# Altium integrated library TL3562-EVM-A1.1-000.IntLib: 110 symbols (part 2 of 2)
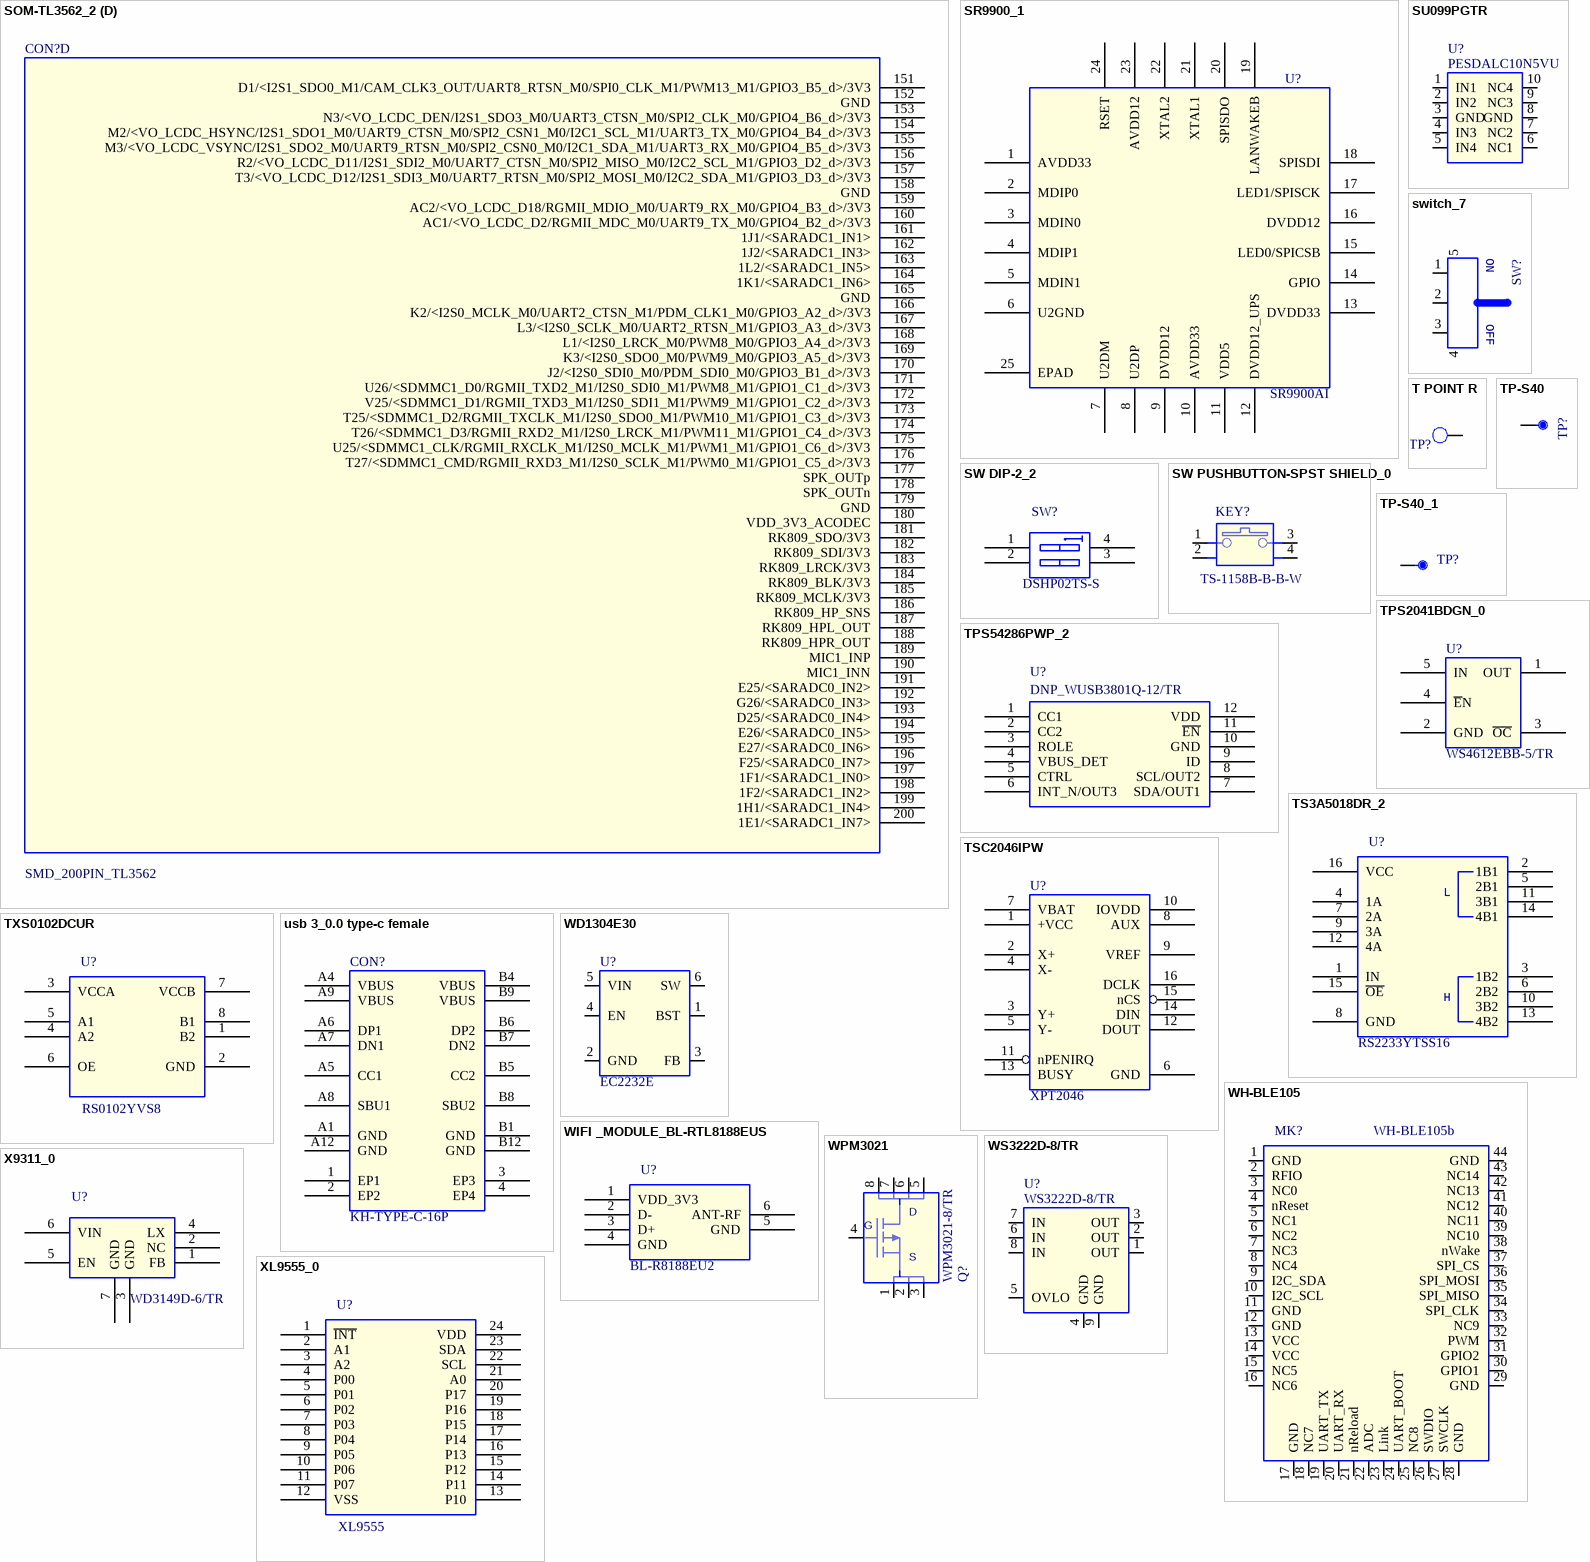
[diagram p8: symbols SOM-TL3562_2 to XL9555_0]

## usb 3_0.0 type-c female
designator CON?, comment KH-TYPE-C-16P
Type-C 母座 90度 16 Pin; Manufacturer Character: 中国大陆; Manufacturer: 深圳市金航标电子有限公司(kinghelm); Operation Temperature（℃）: -40~85℃; room: 10; As-Welded: /; PCB Footprint: TYPE-C_16P_90_SMD; Manufacturer PartNumber: KH-TYPE-C-16P
footprint TYPE-C_16P_90_SMD
pins: 1 EP1 (power), 2 EP2 (power), 3 EP3 (power), 4 EP4 (power), A1 GND (power), A4 VBUS (power), A5 CC1, A6 DP1, A7 DN1, A8 SBU1, A9 VBUS (power), A12 GND (power), B1 GND (power), B4 VBUS (power), B5 CC2, B6 DP2, B7 DN2, B8 SBU2, B9 VBUS (power), B12 GND (power)

## WD1304E30
designator U?, comment EC2232E
DC/DC,Buck,Vin:4.5V~17V,Vout:0.6V~6V,3A,1·; Manufacturer: 上海芯强微电子股份有限公司（Ecranic）; Manufacturer Character: 中国大陆; PCB Footprint: SOT-23-6L; Operation Temperature（℃）: -40~85℃; As-Welded: /; Temperature: -40~85℃; Manufacturer PartNumber: EC2232E
footprint SOT-23-6L
pins: 1 BST, 2 GND (power), 3 FB, 4 EN, 5 VIN (power), 6 SW

## WH-BLE105
designator MK?, comment WH-BLE105b
WH-BLE105,有人蓝牙模组工业级无线TTL串口模块5.2协议主从一体,18.2*26.8*2.3(mm); Manufacturer: 有人物联网; Manufacturer Character: 中国大陆; As-Welded: /; PCB Footprint: SMD_44P_1822x2680_WH-BLE105; Manufacturer PartNumber: WH-BLE105b
footprint SMD_44P_1822x2680_WH-BLE105
pins: 1 GND (power), 2 RFIO, 3 NC0, 4 nReset, 5 NC1, 6 NC2, 7 NC3, 8 NC4, 9 I2C_SDA, 10 I2C_SCL, 11 GND (power), 12 GND (power), 13 VCC (power), 14 VCC (power), 15 NC5, 16 NC6, 17 GND (power), 18 NC7, 19 UART_TX, 20 UART_RX, 21 nReload, 22 ADC, 23 Link, 24 UART_BOOT, 25 NC8, 26 SWDIO, 27 SWCLK, 28 GND (power), 29 GND (power), 30 GPIO1, 31 GPIO2, 32 PWM, 33 NC9, 34 SPI_CLK, 35 SPI_MISO, 36 SPI_MOSI, 37 SPI_CS, 38 nWake, 39 NC10, 40 NC11, 41 NC12, 42 NC13, 43 NC14, 44 GND (power)

## WIFI _MODULE_BL-RTL8188EUS
designator U?, comment BL-R8188EU2
Manufacturer: 深圳市必联电子有限公司（B-LINK）; Manufacturer PartNumber: BL-RTL8188EU2; Manufacturer Character: 中国大陆; PCB Footprint: SMD_6P_13x12D3_BL-RTL8188EUS; As-Welded: /
footprint SMD_6P_13x12D3_BL-RTL8188EUS
pins: 1 VDD_3V3, 2 D-, 3 D+, 4 GND (power), 5 GND (power), 6 ANT-RF

## WPM3021
designator Q?, comment WPM3021-8/TR
MOSFET,P沟道,VDSS=-30V,VGSS=±25V,ID=-13A,PD=3.8W,VGS(th)=-3V; Manufacturer: 上海韦尔半导体股份有限公司（WILLSEMI）; Manufacturer Character: 中国大陆; PCB Footprint: PSOPSOP-8L; Operation Temperature（℃）: -55~150℃; As-Welded: /; Temperature: -40~85℃; Manufacturer PartNumber: WPM3021-8/TR
footprint PSOPSOP-8L
pins: 1 S1, 2 S2, 3 S3, 4 G, 5 D1, 6 D2, 7 D3, 8 D4
text: D; S

## WS3222D-8/TR
designator U?
MOSFET,P沟道,VDSS=-30V,VGSS=±25V,ID=-13A,PD=3.8W,VGS(th)=-3V; Manufacturer Character: 中国大陆; Manufacturer: 上海韦尔半导体股份有限公司（WILLSEMI）; PCB Footprint: DFN2X2-8L; As-Welded: /; Operation Temperature（℃）: -40~85℃; Temperature: -40~85℃; Manufacturer PartNumber: WS3222D-8/TR
footprint DFN2X2-8L
pins: 1 OUT (power), 2 OUT (power), 3 OUT (power), 4 GND (power), 5 OVLO, 6 IN (power), 7 IN (power), 8 IN (power), 9 GND (power)

## X9311_0
designator U?, comment WD3149D-6/TR
背光驱动芯片; Manufacturer Character: 中国大陆; Manufacturer: 上海韦尔半导体股份有限公司（WILLSEMI）; As-Welded: /; PCB Footprint: DFN2x2-6L; Manufacturer PartNumber: WD3149D-6/TR; Temperature: -40~85℃
footprint DFN2x2-6L
pins: 1 FB, 2 NC, 3 GND (power), 4 LX, 5 EN, 6 VIN, 7 GND (power)

## XL9555_0
designator U?, comment XL9555
拓展IO芯片; Manufacturer Character: 中国大陆; Manufacturer: 信路达信息技术（厦门）有限（xinluda）; PCB Footprint: TSSOP24; As-Welded: /; Operation Temperature（℃）: -40~85℃; Temperature: -40~85℃; Manufacturer PartNumber: XL9555
footprint TSSOP24
pins: 1 ~{INT}, 2 A1, 3 A2, 4 P00, 5 P01, 6 P02, 7 P03, 8 P04, 9 P05, 10 P06, 11 P07, 12 VSS, 13 P10, 14 P11, 15 P12, 16 P13, 17 P14, 18 P15, 19 P16, 20 P17, 21 A0, 22 SCL, 23 SDA, 24 VDD

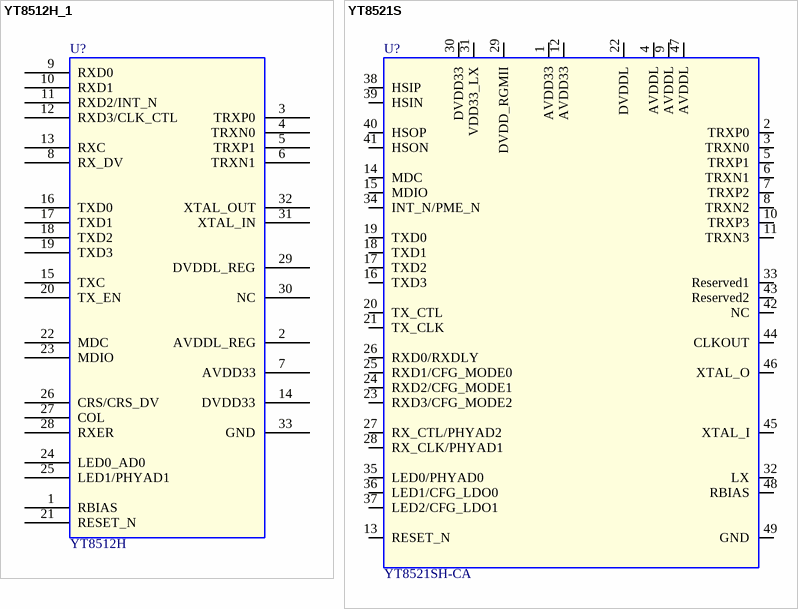
[diagram p7: symbols YT8512H_1 to YT8521S]

## YT8512H_1
designator U?, comment YT8512H
以太网收发器，MII/RMII; Manufacturer Character: 中国大陆; Manufacturer: 苏州裕太微电子有限公司（Motorcomm）; Operation Temperature（℃）: -40~85℃; As-Welded: /; PCB Footprint: QFN32; Temperature: -40~85℃; Manufacturer PartNumber: YT8512H
footprint QFN32
pins: 1 RBIAS, 2 AVDDL_REG, 3 TRXP0, 4 TRXN0, 5 TRXP1, 6 TRXN1, 7 AVDD33, 8 RX_DV, 9 RXD0, 10 RXD1, 11 RXD2/INT_N, 12 RXD3/CLK_CTL, 13 RXC, 14 DVDD33, 15 TXC, 16 TXD0, 17 TXD1, 18 TXD2, 19 TXD3, 20 TX_EN, 21 RESET_N, 22 MDC, 23 MDIO, 24 LED0_AD0, 25 LED1/PHYAD1, 26 CRS/CRS_DV, 27 COL, 28 RXER, 29 DVDDL_REG, 30 NC, 31 XTAL_IN, 32 XTAL_OUT, 33 GND

## YT8521S
designator U?, comment YT8521SH-CA
以太网收发器，RGMII/SGMII; Manufacturer: 苏州裕太微电子有限公司（Motorcomm）; Manufacturer Character: 中国大陆; As-Welded: /; Operation Temperature（℃）: -40~85℃; PCB Footprint: QFN48; Manufacturer PartNumber: YT8521SH-CA; Temperature: -40~85
footprint QFN48
pins: 1 AVDD33 (power), 2 TRXP0, 3 TRXN0, 4 AVDDL (power), 5 TRXP1, 6 TRXN1, 7 TRXP2, 8 TRXN2, 9 AVDDL (power), 10 TRXP3, 11 TRXN3, 12 AVDD33 (power), 13 RESET_N, 14 MDC, 15 MDIO, 16 TXD3, 17 TXD2, 18 TXD1, 19 TXD0, 20 TX_CTL, 21 TX_CLK, 22 DVDDL (power), 23 RXD3/CFG_MODE2, 24 RXD2/CFG_MODE1, 25 RXD1/CFG_MODE0, 26 RXD0/RXDLY, 27 RX_CTL/PHYAD2, 28 RX_CLK/PHYAD1, 29 DVDD_RGMII (power), 30 DVDD33 (power), 31 VDD33_LX (power), 32 LX (power), 33 Reserved1, 34 INT_N/PME_N, 35 LED0/PHYAD0, 36 LED1/CFG_LDO0, 37 LED2/CFG_LDO1, 38 HSIP, 39 HSIN, 40 HSOP, 41 HSON, 42 NC, 43 Reserved2, 44 CLKOUT, 45 XTAL_I, 46 XTAL_O, 47 AVDDL (power), 48 RBIAS, 49 GND (power)